# EAGLE library part TE-CC430F51-433 (library X893)
http://www.terraelectronica.ru/files/modules/te-cc430f51/TE-CC430F51-433_User-Guide.pdf
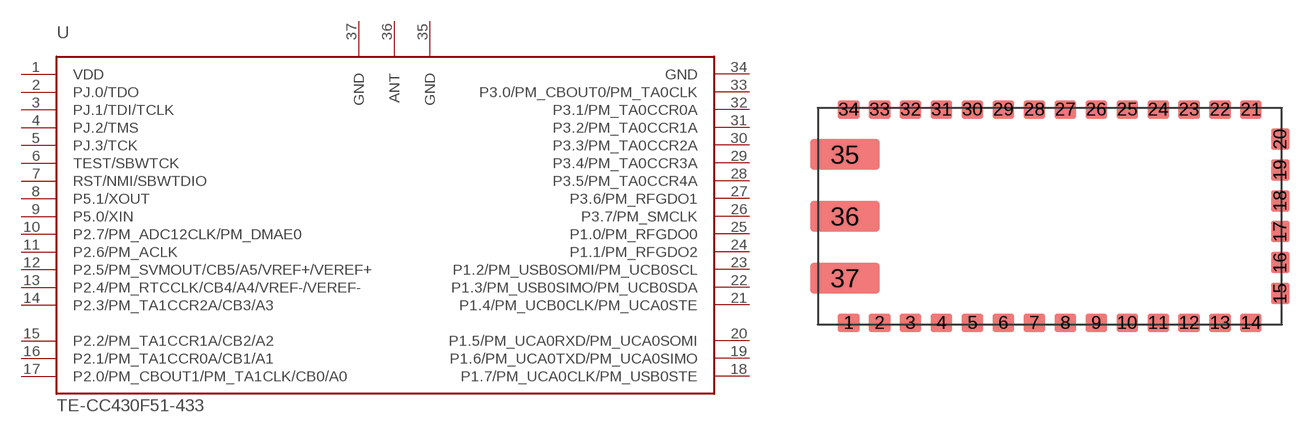
[diagram p174: symbol with the pads of TE-CC430F51-433; footprint TE-CC430F51-433]

Designator prefix U

## TE-CC430F51-433  [TE-CC430F51-433]
1  VDD
2  PJ.0/TDO
3  PJ.1/TDI/TCLK
4  PJ.2/TMS
5  PJ.3/TCK
6  TEST/SBWTCK
7  RST/NMI/SBWTDIO
8  P5.1/XOUT
9  P5.0/XIN
10  P2.7/PM_ADC12CLK/PM_DMAE0
11  P2.6/PM_ACLK
12  P2.5/PM_SVMOUT/CB5/A5/VREF+/VEREF+
13  P2.4/PM_RTCCLK/CB4/A4/VREF-/VEREF-
14  P2.3/PM_TA1CCR2A/CB3/A3
15  P2.2/PM_TA1CCR1A/CB2/A2
16  P2.1/PM_TA1CCR0A/CB1/A1
17  P2.0/PM_CBOUT1/PM_TA1CLK/CB0/A0
18  P1.7/PM_UCA0CLK/PM_USB0STE
19  P1.6/PM_UCA0TXD/PM_UCA0SIMO
20  P1.5/PM_UCA0RXD/PM_UCA0SOMI
21  P1.4/PM_UCB0CLK/PM_UCA0STE
22  P1.3/PM_USB0SIMO/PM_UCB0SDA
23  P1.2/PM_USB0SOMI/PM_UCB0SCL
24  P1.1/PM_RFGDO2
25  P1.0/PM_RFGDO0
26  P3.7/PM_SMCLK
27  P3.6/PM_RFGDO1
28  P3.5/PM_TA0CCR4A
29  P3.4/PM_TA0CCR3A
30  P3.3/PM_TA0CCR2A
31  P3.2/PM_TA0CCR1A
32  P3.1/PM_TA0CCR0A
33  P3.0/PM_CBOUT0/PM_TA0CLK
34  GND
35  GND
36  ANT
37  GND

## Footprint TE-CC430F51-433 (pad centres in mm)
smd 1.4 x 1.2: 1 -13,-6.9; 2 -11,-6.9; 3 -9,-6.9; 4 -7,-6.9; 5 -5,-6.9; 6 -3,-6.9; 7 -1,-6.9; 8 1,-6.9; 9 3,-6.9; 10 5,-6.9; 11 7,-6.9; 12 9,-6.9; 13 11,-6.9; 14 13,-6.9; 21 13,6.9; 22 11,6.9; 23 9,6.9; 24 7,6.9; 25 5,6.9; 26 3,6.9; 27 1,6.9; 28 -1,6.9; 29 -3,6.9; 30 -5,6.9; 31 -7,6.9; 32 -9,6.9; 33 -11,6.9; 34 -13,6.9
smd 1.2 x 1.4: 15 14.9,-5; 16 14.9,-3; 17 14.9,-1; 18 14.9,1; 19 14.9,3; 20 14.9,5
smd 4.5 x 2: 35 -13.25,4; 36 -13.25,0; 37 -13.25,-4